# Altium schematic symbol library 插接件.SchLib: 2 symbols
Pins are listed as number, name and electrical type; pins without a type are passive.

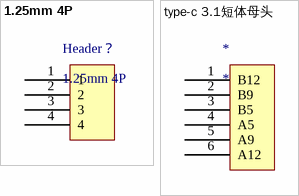
[diagram p0: symbols 1.25mm 4P to type-c 3.1短体母头]

## 1.25mm 4P
designator Header？
footprint 1.25mm 4P
footprint 1.25mm 4P
pins: 1, 2, 3, 4

## type-c 3.1短体母头
designator *
pins: 1 B12, 2 B9, 3 B5, 4 A5, 5 A9, 6 A12